# Altium footprint library PCB1.PcbLib: 20 footprints (part 1 of 2)
Each footprint in its own frame and in the unit in brackets; x right, y up, seen from the top. Pads: shape width x height; smd on the part's side, far side on the other; paste and mask are expansions set on the pad; w line width, h text height; cw(c..) or ccw(c..) is an arc to the next point about the centre after c.
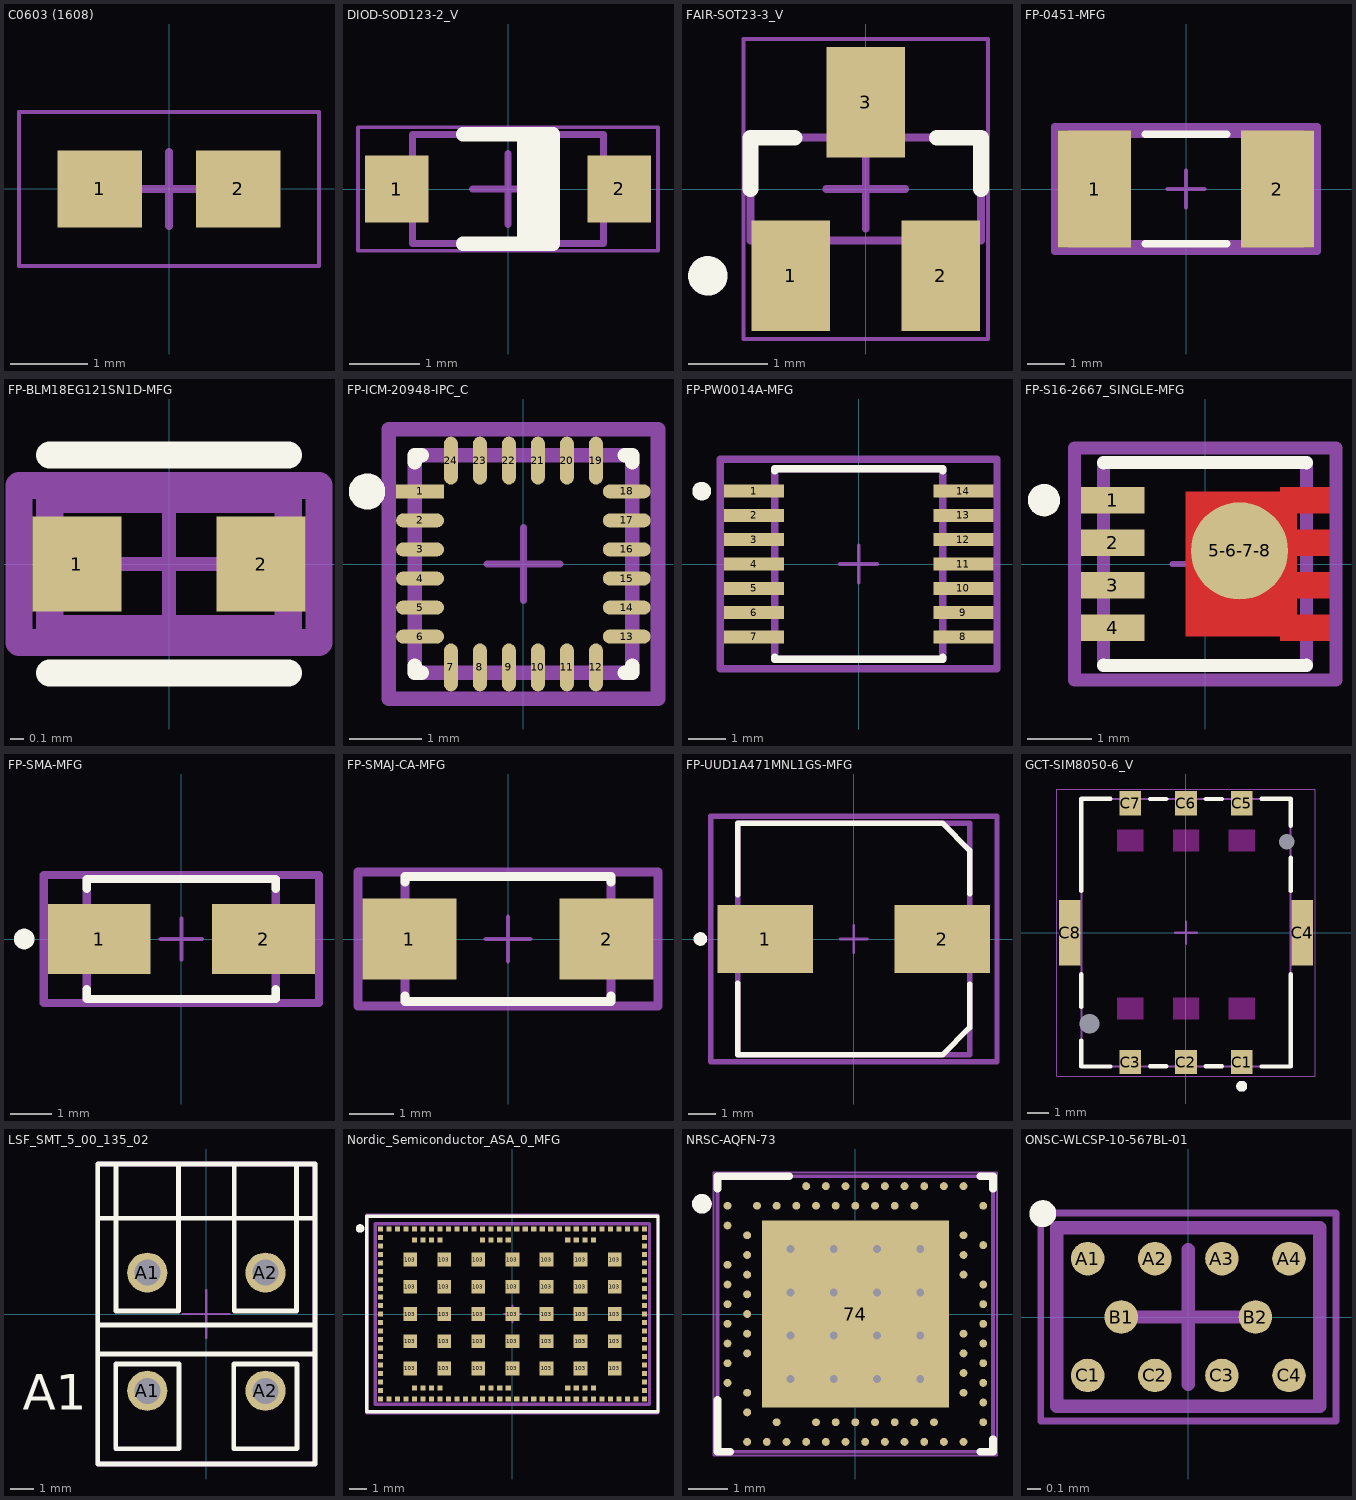
[diagram p0: the footprints below, top view; thin cyan lines are the x and y axes]

## C0603 (1608) [mm]
pads (2):
  rect 1.1x1 smd: 1(-0.9,0) 2(0.9,0)
Mechanical 15:
  lines w0.05: -1.95,-1 -1.95,1 1.95,1 1.95,-1 -1.95,-1
  lines w0.1: -0.48,0 0.48,0 ; 0,-0.48 0,0.48
3D body "CAP 0603.STEP": height 0.79, standoff -0.03, extent -0.798,-0.407 0.802,0.417

## DIOD-SOD123-2_V [mm]
pads (2):
  rect 0.9x0.95 smd: 1(-1.575,0) 2(1.575,0)
Top Overlay:
  rectangle: 0.127,-0.825 0.635,0.762
  lines w0.2: -0.635,-0.775 0.635,-0.775 0.635,0.775 -0.635,0.775
Mechanical 13:
  lines w0.1: -1.35,-0.775 -1.35,0.775 1.35,0.775 1.35,-0.775 -1.35,-0.775
Mechanical 15:
  lines w0.05: -2.125,-0.875 -2.125,0.875 2.125,0.875 2.125,-0.875 -2.125,-0.875
  lines w0.1: -0.5,0 0.5,0 ; 0,-0.5 0,0.5
3D body: height 1.45, standoff 0, extent -1.35,-0.775 1.35,0.775

## FAIR-SOT23-3_V [mm]
pads (3):
  rect 1x1.4 smd: 1(-0.95,-1.1) 2(0.95,-1.1) 3(0,1.1)
Top Overlay:
  circle w0.25: c-2,-1.1 r0.125
  lines w0.2: -1.46,0 -1.46,0.65 -0.9,0.65 ; 0.9,0.65 1.46,0.65 1.46,0
Mechanical 13:
  lines w0.1: -1.46,-0.65 -1.46,0.65 1.46,0.65 1.46,-0.65 -1.46,-0.65
Mechanical 15:
  lines w0.05: -1.55,-1.9 -1.55,1.9 1.55,1.9 1.55,-1.9 -1.55,-1.9
  lines w0.1: -0.5,0 0.5,0 ; 0,-0.5 0,0.5
3D body: height 1.2, standoff 0, extent -1.46,-0.65 1.46,0.65

## FP-0451-MFG [mil]
pads (2):
  rect 77x124 smd paste+0 mask+0: 1(-96.5,0) 2(96.5,0)
Top Overlay:
  lines w7.87: -43.11,-57.87 43.11,-57.87 ; -43.11,57.87 43.11,57.87
Top 3D Body:
  lines w7.87: -124.02,-57.87 124.02,-57.87 124.02,57.87 -124.02,57.87 -124.02,-57.87
Top Courtyard:
  lines w7.87: -138.94,-65.94 138.94,-65.94 138.94,65.94 -138.94,65.94 -138.94,-65.94
Top Assembly:
  lines w7.87: -138.94,-65.94 138.94,-65.94 138.94,65.94 -138.94,65.94 -138.94,-65.94
  text ".Designator" at 0,7.4 h39.37
Top Component Center:
  lines w3.94: -19.68,0 19.68,0 ; 0,-19.68 0,19.68
3D body "Fuse_Littelfuse_Inc_0451005_MRL_eec.STEP": height 10, standoff 0, extent -138.94,-65.94 138.94,65.94

## FP-BLM18EG121SN1D-MFG [mm]
pads (2):
  rect 0.65x0.7 smd paste+0 mask+0: 1(-0.675,0) 2(0.675,0)
Top Overlay:
  lines w0.2: -0.875,-0.8 0.875,-0.8 ; -0.875,0.8 0.875,0.8
Top 3D Body:
  lines w0.2: -0.875,-0.475 0.875,-0.475 0.875,0.475 -0.875,0.475 -0.875,-0.475
Top Courtyard:
  lines w0.2: -1.1,-0.575 1.1,-0.575 1.1,0.575 -1.1,0.575 -1.1,-0.575
Top Assembly:
  lines w0.2: -1.1,-0.575 1.1,-0.575 1.1,0.575 -1.1,0.575 -1.1,-0.575
  text ".Designator" at 0,0.188 h1
Top Component Center:
  lines w0.1: -0.5,0 0.5,0 ; 0,-0.5 0,0.5
3D body "FBead_Murata_BLM18EG121SN1D_eec.STEP": height 0.25, standoff 0, extent -1.1,-0.575 1.1,0.575

## FP-ICM-20948-IPC_C [mm]
pads (24):
  rect 0.661x0.192 smd paste+0 mask+0: 1(-1.426,1)
  rrect100% 0.661x0.192 smd paste+0 mask+0: 2(-1.426,0.6) 3(-1.426,0.2) 4(-1.426,-0.2) 5(-1.426,-0.6) 6(-1.426,-1) 13(1.426,-1) 14(1.426,-0.6) 15(1.426,-0.2) 16(1.426,0.2) 17(1.426,0.6) 18(1.426,1)
  rrect100% 0.192x0.661 smd paste+0 mask+0: 7(-1,-1.426) 8(-0.6,-1.426) 9(-0.2,-1.426) 10(0.2,-1.426) 11(0.6,-1.426) 12(1,-1.426) 19(1,1.426) 20(0.6,1.426) 21(0.2,1.426) 22(-0.2,1.426) 23(-0.6,1.426) 24(-1,1.426)
Top Overlay:
  circle w0.25: c-2.156,1 r0.125
  lines w0.2: -1.5,-1.4 -1.5,-1.5 -1.4,-1.5 ; -1.5,1.4 -1.5,1.5 -1.4,1.5 ; 1.4,-1.5 1.5,-1.5 1.5,-1.4 ; 1.4,1.5 1.5,1.5 1.5,1.4
Top 3D Body:
  lines w0.2: -1.5,-1.5 1.5,-1.5 1.5,1.5 -1.5,1.5 -1.5,-1.5
Top Courtyard:
  lines w0.2: -1.856,-1.856 1.856,-1.856 1.856,1.856 -1.856,1.856 -1.856,-1.856
Top Assembly:
  lines w0.2: -1.856,-1.856 1.856,-1.856 1.856,1.856 -1.856,1.856 -1.856,-1.856
  text ".Designator" at 0,0.188 h1
Top Component Center:
  lines w0.1: -0.5,0 0.5,0 ; 0,-0.5 0,0.5
3D body "IC_TDK_InvenSense_ICM-20948_eec.STEP": height 0.25, standoff 0, extent -1.856,-1.856 1.856,1.856

## FP-PW0014A-MFG [mm]
pads (14):
  rect 1.6x0.35 smd paste-1000 mask+0: 1(-2.8,1.95) 2(-2.8,1.3) 3(-2.8,0.65) 4(-2.8,0) 5(-2.8,-0.65) 6(-2.8,-1.3) 7(-2.8,-1.95) 8(2.8,-1.95) 9(2.8,-1.3) 10(2.8,-0.65) 11(2.8,0) 12(2.8,0.65) 13(2.8,1.3) 14(2.8,1.95)
Top Overlay:
  circle w0.25: c-4.2,1.95 r0.125
  lines w0.2: -2.25,-2.5 -2.25,-2.55 2.25,-2.55 2.25,-2.5 ; -2.25,2.5 -2.25,2.55 2.25,2.55 2.25,2.5
Top Paste:
  rectangle: 2.025,1.8 3.575,2.1
  rectangle: 2.025,1.15 3.575,1.45
  rectangle: 2.025,0.5 3.575,0.8
  rectangle: 2.025,-0.15 3.575,0.15
  rectangle: 2.025,-0.8 3.575,-0.5
  rectangle: 2.025,-1.45 3.575,-1.15
  rectangle: 2.025,-2.1 3.575,-1.8
  rectangle: -3.575,1.8 -2.025,2.1
  rectangle: -3.575,1.15 -2.025,1.45
  rectangle: -3.575,0.5 -2.025,0.8
  rectangle: -3.575,-0.15 -2.025,0.15
  rectangle: -3.575,-0.8 -2.025,-0.5
  rectangle: -3.575,-1.45 -2.025,-1.15
  rectangle: -3.575,-2.1 -2.025,-1.8
Top 3D Body:
  lines w0.2: -2.25,-2.55 2.25,-2.55 2.25,2.55 -2.25,2.55 -2.25,-2.55
Top Courtyard:
  lines w0.2: -3.7,-2.8 3.7,-2.8 3.7,2.8 -3.7,2.8 -3.7,-2.8
Top Assembly:
  lines w0.2: -3.7,-2.8 3.7,-2.8 3.7,2.8 -3.7,2.8 -3.7,-2.8
  text ".Designator" at 0,0.188 h1
Top Component Center:
  lines w0.1: -0.5,0 0.5,0 ; 0,-0.5 0,0.5
3D body "IC_Texas_Instruments_BQ34110PWR_eec.STEP": height 0.25, standoff 0, extent -3.7,-2.8 3.7,2.8

## FP-S16-2667_SINGLE-MFG [mil]
pads (5):
  rect 39x16 smd paste+0 mask+0: 1(-56.5,39) 2(-56.5,13) 3(-56.5,-13) 4(-56.5,-39)
  round 59.4 smd paste+0 mask+0: 5-6-7-8(21,8)
Top Layer:
  region: -12,44 46,44 46,47 76,47 76,31 56,31 56,21 76,21 76,5 56,5 56,-5 76,-5 76,-21 56,-21 56,-31 76,-31 76,-47 46,-47 46,-44 -12,-44
Top Overlay:
  circle w9.84: c-98.43,39 r4.92
  lines w7.87: -62.01,-61.76 -62.01,-62.01 62.01,-62.01 62.01,-61.76 ; -62.01,61.76 -62.01,62.01 62.01,62.01 62.01,61.76
Top 3D Body:
  lines w7.87: -62.01,-62.01 62.01,-62.01 62.01,62.01 -62.01,62.01 -62.01,-62.01
Top Courtyard:
  lines w7.87: -79.94,-70.87 79.94,-70.87 79.94,70.87 -79.94,70.87 -79.94,-70.87
Top Assembly:
  lines w7.87: -79.94,-70.87 79.94,-70.87 79.94,70.87 -79.94,70.87 -79.94,-70.87
  text ".Designator" at 0,-0.01 h39.37
Top Component Center:
  lines w3.94: -19.68,0 19.68,0 ; 0,-19.68 0,19.68
3D body "Trans_Vishay_SI7615ADN-T1-GE3_eec.STEP": height 10, standoff 0, extent -79.94,-70.87 79.94,70.87

## FP-SMA-MFG [mm]
pads (2):
  rect 2.5x1.7 smd paste+0 mask+0: 1(-2,0) 2(2,0)
Top Overlay:
  circle w0.25: c-3.825,0 r0.125
  lines w0.2: -2.3,-1.225 -2.3,-1.46 2.3,-1.46 2.3,-1.225 ; -2.3,1.225 -2.3,1.46 2.3,1.46 2.3,1.225
Top 3D Body:
  lines w0.2: -2.3,-1.46 2.3,-1.46 2.3,1.46 -2.3,1.46 -2.3,-1.46
Top Courtyard:
  lines w0.2: -3.35,-1.56 3.35,-1.56 3.35,1.56 -3.35,1.56 -3.35,-1.56
Top Assembly:
  lines w0.2: -3.35,-1.56 3.35,-1.56 3.35,1.56 -3.35,1.56 -3.35,-1.56
  text ".Designator" at 0,0.188 h1
Top Component Center:
  lines w0.1: -0.5,0 0.5,0 ; 0,-0.5 0,0.5
3D body "Diode_Diodes_Inc_ES2BA-13-F_eec.STEP": height 0.25, standoff 0, extent -3.35,-1.56 3.35,1.56

## FP-SMAJ-CA-MFG [mm]
pads (2):
  rect 2.1x1.8 smd paste+0 mask+0: 1(-2.2,0) 2(2.2,0)
Top Overlay:
  lines w0.2: -2.3,-1.275 -2.3,-1.395 2.3,-1.395 2.3,-1.275 ; -2.3,1.275 -2.3,1.395 2.3,1.395 2.3,1.275
Top 3D Body:
  lines w0.2: -2.3,-1.395 2.3,-1.395 2.3,1.395 -2.3,1.395 -2.3,-1.395
Top Courtyard:
  lines w0.2: -3.35,-1.495 3.35,-1.495 3.35,1.495 -3.35,1.495 -3.35,-1.495
Top Assembly:
  lines w0.2: -3.35,-1.495 3.35,-1.495 3.35,1.495 -3.35,1.495 -3.35,-1.495
  text ".Designator" at 0,0.188 h1
Top Component Center:
  lines w0.1: -0.5,0 0.5,0 ; 0,-0.5 0,0.5
3D body "Diode_Littelfuse_Inc_SMAJ36CA_eec.STEP": height 0.25, standoff 0, extent -3.35,-1.495 3.35,1.495

## FP-UUD1A471MNL1GS-MFG [mm]
pads (2):
  rect 3.5x2.5 smd paste+0 mask+0: 1(-3.25,0) 2(3.25,0)
Top Overlay:
  circle w0.25: c-5.625,0 r0.125
  lines w0.2: -4.25,-1.625 -4.25,-4.25 3.25,-4.25 4.25,-3.25 4.25,-1.65 ; -4.25,1.625 -4.25,4.25 3.25,4.25 4.25,3.25 4.25,1.65
Top 3D Body:
  lines w0.2: -4.25,-4.25 4.25,-4.25 4.25,4.25 -4.25,4.25 -4.25,-4.25
Top Courtyard:
  lines w0.2: -5.25,-4.5 5.25,-4.5 5.25,4.5 -5.25,4.5 -5.25,-4.5
Top Assembly:
  lines w0.2: -5.25,-4.5 5.25,-4.5 5.25,4.5 -5.25,4.5 -5.25,-4.5
  text ".Designator" at 0,0.188 h1
Top Component Center:
  lines w0.1: -0.5,0 0.5,0 ; 0,-0.5 0,0.5

## GCT-SIM8050-6_V [mm]
pads (10):
  rect 1x1.1 smd: C1(2.54,-5.9) C2(0,-5.9) C3(-2.54,-5.9) C5(2.54,5.9) C6(0,5.9) C7(-2.54,5.9)
  rect 1x3 smd: C4(5.3,0) C8(-5.3,0)
  round 0 hole 0.9: MH1(-4.4,-4.15)
  round 0 hole 0.7: MH2(4.6,4.15)
Top Layer keep-out:
  rectangle: -3.14,-3.95 -1.94,-2.95
  rectangle: -3.14,3.7 -1.94,4.7
  rectangle: -0.6,3.7 0.6,4.7
  rectangle: 1.94,3.7 3.14,4.7
  rectangle: 1.94,-3.95 3.14,-2.95
  rectangle: -0.6,-3.95 0.6,-2.95
Top Overlay:
  circle w0.25: c2.54,-7 r0.125
  lines w0.2: -4.77,-4.915 -4.77,-6.1 -3.44,-6.1 ; -4.77,-3.385 -4.77,-1.899 ; -4.77,1.899 -4.77,6.1 -3.44,6.1 ; -1.64,-6.096 -0.9,-6.096 ; -1.64,6.096 -0.9,6.096 ; 0.9,-6.096 1.64,-6.096 ; 0.9,6.096 1.64,6.096 ; 3.44,-6.1 4.77,-6.1 4.77,-1.899 ; 3.44,6.1 4.77,6.1 4.77,4.88 ; 4.77,1.899 4.77,3.42
Mechanical 13:
  lines w0.1: -4.77,-6.1 4.77,-6.1 4.77,6.1 -4.77,6.1 -4.77,-6.1
Mechanical 15:
  lines w0.05: -5.9,-6.55 5.9,-6.55 5.9,6.55 -5.9,6.55 -5.9,-6.55
  lines w0.1: -0.5,0 0.5,0 ; 0,-0.5 0,0.5
3D body "SIM8050-6-0-14-01-A_revE.step": height 1.37, standoff -0.39, extent -5.42,-6.1 5.42,6.1

## LSF_SMT_5_00_135_02 [mm]
pads (4):
  round 1.7 hole 1.1: A1(-2.5,-3.25) A1(-2.5,1.75) A2(2.5,-3.25) A2(2.5,1.75)
Top Overlay:
  lines w0.2: -4.6,-1.691 4.6,-1.691 ; -4.6,-0.468 4.6,-0.468 ; -4.6,4.049 4.6,4.049 ; -4.6,-6.35 -4.6,6.35 4.6,6.35 4.6,-6.35 -4.6,-6.35 ; -3.84,-5.7 -1.16,-5.7 -1.16,-2.116 -3.84,-2.116 -3.84,-5.7 ; -3.82,0.124 -3.82,6.35 -1.18,6.35 -1.18,0.124 -3.82,0.124 ; 1.16,-5.7 1.16,-2.116 3.84,-2.116 3.84,-5.7 1.16,-5.7 ; 1.18,0.124 3.82,0.124 3.82,6.35 1.18,6.35 1.18,0.124
  text "A1" at -7.762,-4.045 h1.5
Mechanical 15:
  lines w0.1: -1,0 1,0 ; 0,-1 0,1
  lines w0.2: -4.6,-6.35 -4.6,6.35 4.6,6.35 4.6,-6.35 -4.6,-6.35
3D body "LSF-SMT5.0_2_135_3.5_1884340000.stp": height 13.17, standoff -3.49, extent -4.6,-6.35 4.6,6.35

## Nordic_Semiconductor_ASA_0_MFG [mm]
pads (161):
  rect 0.3x0.3 smd paste+0 mask+0: 1(-7.75,5) 2(-7.75,4.5) 3(-7.75,4) 4(-7.75,3.5) 5(-7.75,3) 6(-7.75,2.5) 7(-7.75,2) 8(-7.75,1.5) 9(-7.75,1) 10(-7.75,0.5) 11(-7.75,0) 12(-7.75,-0.5) 13(-7.75,-1) 14(-7.75,-1.5) 15(-7.75,-2) 16(-7.75,-2.5) 17(-7.75,-3) 18(-7.75,-3.5) 19(-7.75,-4) 20(-7.75,-4.5) 21(-7.75,-5) 22(-7.25,-5) 23(-6.75,-5) 24(-6.25,-5) 25(-5.75,-5) 26(-5.25,-5) 27(-4.75,-5) 28(-4.25,-5) 29(-3.75,-5) 30(-3.25,-5) 31(-2.75,-5) 32(-2.25,-5) 33(-1.75,-5) 34(-1.25,-5) 35(-0.75,-5) 36(-0.25,-5) 37(0.25,-5) 38(0.75,-5) 39(1.25,-5) 40(1.75,-5) 41(2.25,-5) 42(2.75,-5) 43(3.25,-5) 44(3.75,-5) 45(4.25,-5) 46(4.75,-5) 47(5.25,-5) 48(5.75,-5) 49(6.25,-5) 50(6.75,-5) 51(7.25,-5) 52(7.75,-5) 53(7.75,-4.5) 54(7.75,-4) 55(7.75,-3.5) 56(7.75,-3) 57(7.75,-2.5) 58(7.75,-2) 59(7.75,-1.5) 60(7.75,-1) 61(7.75,-0.5) 62(7.75,0) 63(7.75,0.5) 64(7.75,1) 65(7.75,1.5) 66(7.75,2) 67(7.75,2.5) 68(7.75,3) 69(7.75,3.5) 70(7.75,4) 71(7.75,4.5) 72(7.75,5) 73(7.25,5) 74(6.75,5) 75(6.25,5) 76(5.75,5) 77(5.25,5) 78(4.75,5) 79(4.25,5) 80(3.75,5) 81(3.25,5) 82(2.75,5) 83(2.25,5) 84(1.75,5) 85(1.25,5) 86(0.75,5) 87(0.25,5) 88(-0.25,5) 89(-0.75,5) 90(-1.25,5) 91(-1.75,5) 92(-2.25,5) 93(-2.75,5) 94(-3.25,5) 95(-3.75,5) 96(-4.25,5) 97(-4.75,5) 98(-5.25,5) 99(-5.75,5) 100(-6.25,5) 101(-6.75,5) 102(-7.25,5) 104(-5.75,-4.35) 105(-5.25,-4.35) 106(-4.75,-4.35) 107(-4.25,-4.35) 108(-1.75,-4.35) 109(-1.25,-4.35) 110(-0.75,-4.35) 111(-0.25,-4.35) 112(3.25,-4.35) 113(3.75,-4.35) 114(4.25,-4.35) 115(4.75,-4.35) 116(4.75,4.35) 117(4.25,4.35) 118(3.75,4.35) 119(3.25,4.35) 120(-0.25,4.35) 121(-0.75,4.35) 122(-1.25,4.35) 123(-1.75,4.35) 124(-4.25,4.35) 125(-4.75,4.35) 126(-5.25,4.35) 127(-5.75,4.35)
  rect 0.8x0.8 smd paste+0 mask+0: 103(-6,-3.2) 103(-6,-1.6) 103(-6,0) 103(-6,1.6) 103(-6,3.2) 103(-4,-3.2) 103(-4,-1.6) 103(-4,0) 103(-4,1.6) 103(-4,3.2) 103(-2,-3.2) 103(-2,-1.6) 103(-2,0) 103(-2,1.6) 103(-2,3.2) 103(0,-3.2) 103(0,-1.6) 103(0,0) 103(0,1.6) 103(0,3.2) 103(2,-3.2) 103(2,-1.6) 103(2,0) 103(2,1.6) 103(2,3.2) 103(4,-3.2) 103(4,-1.6) 103(4,0) 103(4,1.6) 103(4,3.2) 103(6,-3.2) 103(6,-1.6) 103(6,0) 103(6,1.6) 103(6,3.2)
Top Overlay:
  circle w0.25: c-8.95,5.025 r0.125
  lines w0.2: -8.55,-5.75 -8.55,5.75 8.55,5.75 8.55,-5.75 -8.55,-5.75
Mechanical 10:
  lines w0.2: -8.55,-5.8 -8.55,5.8 8.55,5.8 8.55,-5.8 -8.55,-5.8
  text ".Designator" at 0,0 h1
Mechanical 12:
  lines w0.2: -8.05,-5.3 -8.05,5.3 8.05,5.3 8.05,-5.3 -8.05,-5.3
Mechanical 15:
  lines w0.1: -0.5,0 0.5,0 ; 0,-0.5 0,0.5
  lines w0.2: -8.55,-5.8 -8.55,5.8 8.55,5.8 8.55,-5.8 -8.55,-5.8
3D body "UNK_Nordic_Semiconductor_ASA_NRF9160-SICA-R7_eec.STEP": height 0.25, standoff 0, extent -8.55,-5.8 8.55,5.8

## NRSC-AQFN-73 [mm]
pads (74):
  rect 4.75x4.75 smd: 74(0,0)
  round 0.2 smd: A8(-1.25,3.25) A10(-0.75,3.25) A12(-0.25,3.25) A14(0.25,3.25) A16(0.75,3.25) A18(1.25,3.25) A20(1.75,3.25) A22(2.25,3.25) A23(2.75,3.25) AA24(3.25,-2.25) AB2(-2.75,-2.5) AC5(-2,-2.75) AC9(-1,-2.75) AC11(-0.5,-2.75) AC13(0,-2.75) AC15(0.5,-2.75) AC17(1,-2.75) AC19(1.5,-2.75) AC21(2,-2.75) AC24(3.25,-2.75) AD2(-2.75,-3.25) AD4(-2.25,-3.25) AD6(-1.75,-3.25) AD8(-1.25,-3.25) AD10(-0.75,-3.25) AD12(-0.25,-3.25) AD14(0.25,-3.25) AD16(0.75,-3.25) AD18(1.25,-3.25) AD20(1.75,-3.25) AD22(2.25,-3.25) AD23(2.75,-3.25) B1(-3.25,2.75) B3(-2.5,2.75) B5(-2,2.75) B7(-1.5,2.75) B9(-1,2.75) B11(-0.5,2.75) B13(0,2.75) B15(0.5,2.75) B17(1,2.75) B19(1.5,2.75) B24(3.25,2.75) C1(-3.25,2.25) D2(-2.75,2) D23(2.75,2) E24(3.25,1.75) F2(-2.75,1.5) F23(2.75,1.5) G1(-3.25,1.25) H2(-2.75,1) H23(2.75,1) J1(-3.25,0.75) J24(3.25,0.75) K2(-2.75,0.5) L1(-3.25,0.25) L24(3.25,0.25) M2(-2.75,0) N1(-3.25,-0.25) N24(3.25,-0.25) P2(-2.75,-0.5) P23(2.75,-0.5) R1(-3.25,-0.75) R24(3.25,-0.75) T2(-2.75,-1) T23(2.75,-1) U1(-3.25,-1.25) U24(3.25,-1.25) V23(2.75,-1.5) W1(-3.25,-1.75) W24(3.25,-1.75) Y2(-2.75,-2) Y23(2.75,-2)
via 1.65,1.65 diameter 0.5 hole 0.2
via -0.55,1.65 diameter 0.5 hole 0.2
via 0.55,1.65 diameter 0.5 hole 0.2
via -1.65,1.65 diameter 0.5 hole 0.2
via 1.65,-0.55 diameter 0.5 hole 0.2
via 1.65,-1.65 diameter 0.5 hole 0.2
via 1.65,0.55 diameter 0.5 hole 0.2
via 0.55,0.55 diameter 0.5 hole 0.2
via -1.65,0.55 diameter 0.5 hole 0.2
via -0.55,0.55 diameter 0.5 hole 0.2
via -0.55,-1.65 diameter 0.5 hole 0.2
via 0.55,-1.65 diameter 0.5 hole 0.2
via -1.65,-1.65 diameter 0.5 hole 0.2
via -1.65,-0.55 diameter 0.5 hole 0.2
via 0.55,-0.55 diameter 0.5 hole 0.2
via -0.55,-0.55 diameter 0.5 hole 0.2
Top Overlay:
  circle w0.25: c-3.899,2.8 r0.125
  lines w0.2: -3.5,-2.183 -3.5,-3.5 -3.183,-3.5 ; -3.5,3.183 -3.5,3.5 -1.683,3.5 ; 3.183,-3.5 3.5,-3.5 3.5,-3.183 ; 3.183,3.5 3.5,3.5 3.5,3.183
Mechanical 13:
  lines w0.1: -3.5,-3.5 3.5,-3.5 3.5,3.5 -3.5,3.5 -3.5,-3.5
Mechanical 15:
  lines w0.05: -3.6,-3.6 -3.6,3.6 3.6,3.6 3.6,-3.6 -3.6,-3.6
  lines w0.1: -0.5,0 0.5,0 ; 0,-0.5 0,0.5
3D body: height 0.85, standoff 0.02, extent -3.5,-3.5 3.5,3.5

## ONSC-WLCSP-10-567BL-01 [mm]
pads (10):
  round 0.25 smd: A1(-0.75,0.435) A2(-0.25,0.435) A3(0.25,0.435) A4(0.75,0.435) B1(-0.5,0) B2(0.5,0) C1(-0.75,-0.435) C2(-0.25,-0.435) C3(0.25,-0.435) C4(0.75,-0.435)
Top Overlay:
  circle w0.1: c-1.085,0.77 r0.05
Mechanical 13:
  lines w0.1: -0.98,-0.665 0.98,-0.665 0.98,0.665 -0.98,0.665 -0.98,-0.665
Mechanical 15:
  lines w0.05: -1.1,-0.775 1.1,-0.775 1.1,0.775 -1.1,0.775 -1.1,-0.775
  lines w0.1: -0.5,0 0.5,0 ; 0,-0.5 0,0.5
3D body: height 0.72, standoff 0.21, extent -0.98,-0.665 0.98,0.665